# EAGLE library part SN74LVC2G02 (library IC)
Dual 2-Input Positive-NOR Gate Texas Instruments SN74LVC2G02 This dual 2-input positive-NOR gate is designed for 1.65V-5.5V VCC operation. This device is fully specified for partial-power-down applications using Ioff. The Ioff circuitry disables the outputs, preventing damaging current backflow through the device when it is powered down. Supports 5V VCC operation Inputs accept voltages to 5.5V Low power consumption. 10µA max ICC SN74LVC2G02 Datasheet <http://www.ti.com/lit/ds/symlink/sn74lvc2g02.pdf>
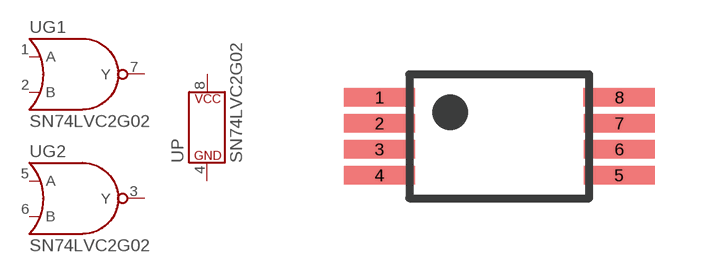
[diagram p1: symbol with the pads of SSOP8; footprint SSOP8]

Designator prefix -; gates G1=GATE_NOR_2 G2=GATE_NOR_2 P=POWER_CONSORT

## SN74LVC2G02DCU  [SSOP8]
1  G1:A
2  G1:B
3  G2:Y
4  P:P$V-
5  G2:A
6  G2:B
7  G1:Y
8  P:P$V+

## Footprint SSOP8 (pad centres in mm)
smd 1.8 x 0.45: 1 -3,0.925; 2 -3,0.275; 3 -3,-0.375; 4 -3,-1.025; 5 3,-1.025; 6 3,-0.375; 7 3,0.275; 8 3,0.925